# Altium footprint library 1720BL15A0100E.PcbLib: 3 footprints
Each footprint in its own frame and in the unit in brackets; x right, y up, seen from the top. Pads: shape width x height; smd on the part's side, far side on the other; paste and mask are expansions set on the pad; w line width, h text height; cw(c..) or ccw(c..) is an arc to the next point about the centre after c.
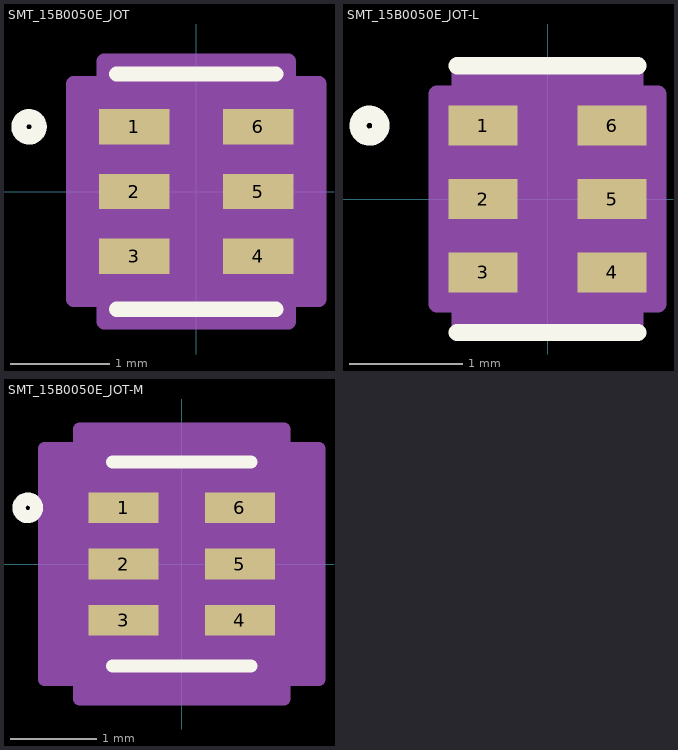
[diagram p0: the footprints below, top view; thin cyan lines are the x and y axes]

## SMT_15B0050E_JOT [mil]
pads (6):
  rect 28x14 smd paste+0 mask+0: 1(-24.5,25.59) 2(-24.5,0) 3(-24.5,-25.59) 4(24.5,-25.59) 5(24.5,0) 6(24.5,25.59)
Top Overlay:
  circle w6: c-66.09,25.59 r4
  lines w6: -31.5,-46.5 31.5,-46.5 ; -31.5,46.5 31.5,46.5
Mechanical 13:
  circle w0: c-10.5,25.59 r3
  lines w0: -12,41.5 ccw(c0,41.5) 12,41.5
  lines w1: -26.5,-41.5 26.5,-41.5 26.5,41.5 -26.5,41.5 -26.5,-41.5
Mechanical 15:
  region: -36.5,-42.59 -48.5,-42.59 -48.5,42.59 -36.5,42.59 -36.5,51.5 36.5,51.5 36.5,42.59 48.5,42.59 48.5,-42.59 36.5,-42.59 36.5,-51.5 -36.5,-51.5
  lines w6: -48.5,-42.59 -48.5,42.59 -36.5,42.59 -36.5,51.5 36.5,51.5 36.5,42.59 48.5,42.59 48.5,-42.59 36.5,-42.59 36.5,-51.5 -36.5,-51.5 -36.5,-42.59 -48.5,-42.59
3D body "SMT_15B0050E_JOT.step": height 41.1, standoff 0, extent -26.5,-41.5 26.5,41.5

## SMT_15B0050E_JOT-L [mil]
pads (6):
  rect 24x14 smd paste+0 mask+0: 1(-22.5,25.59) 2(-22.5,0) 3(-22.5,-25.59) 4(22.5,-25.59) 5(22.5,0) 6(22.5,25.59)
Top Overlay:
  circle w6: c-62.09,25.59 r4
  lines w6: -31.5,-46.5 31.5,-46.5 ; -31.5,46.5 31.5,46.5
Mechanical 13:
  circle w0: c-10.5,25.59 r3
  lines w0: -12,41.5 ccw(c0,41.5) 12,41.5
  lines w1: -26.5,-41.5 26.5,-41.5 26.5,41.5 -26.5,41.5 -26.5,-41.5
Mechanical 15:
  region: -30.5,-36.59 -38.5,-36.59 -38.5,36.59 -30.5,36.59 -30.5,45.5 30.5,45.5 30.5,36.59 38.5,36.59 38.5,-36.59 30.5,-36.59 30.5,-45.5 -30.5,-45.5
  lines w6: -38.5,-36.59 -38.5,36.59 -30.5,36.59 -30.5,45.5 30.5,45.5 30.5,36.59 38.5,36.59 38.5,-36.59 30.5,-36.59 30.5,-45.5 -30.5,-45.5 -30.5,-36.59 -38.5,-36.59
3D body "SMT_15B0050E_JOT.step": height 41.1, standoff 0, extent -26.5,-41.5 26.5,41.5

## SMT_15B0050E_JOT-M [mil]
pads (6):
  rect 32x14 smd paste+0 mask+0: 1(-26.5,25.59) 2(-26.5,0) 3(-26.5,-25.59) 4(26.5,-25.59) 5(26.5,0) 6(26.5,25.59)
Top Overlay:
  circle w6: c-70.09,25.59 r4
  lines w6: -31.5,-46.5 31.5,-46.5 ; -31.5,46.5 31.5,46.5
Mechanical 13:
  circle w0: c-10.5,25.59 r3
  lines w0: -12,41.5 ccw(c0,41.5) 12,41.5
  lines w1: -26.5,-41.5 26.5,-41.5 26.5,41.5 -26.5,41.5 -26.5,-41.5
Mechanical 15:
  region: -46.5,-52.59 -62.5,-52.59 -62.5,52.59 -46.5,52.59 -46.5,61.5 46.5,61.5 46.5,52.59 62.5,52.59 62.5,-52.59 46.5,-52.59 46.5,-61.5 -46.5,-61.5
  lines w6: -62.5,-52.59 -62.5,52.59 -46.5,52.59 -46.5,61.5 46.5,61.5 46.5,52.59 62.5,52.59 62.5,-52.59 46.5,-52.59 46.5,-61.5 -46.5,-61.5 -46.5,-52.59 -62.5,-52.59
3D body "SMT_15B0050E_JOT.step": height 41.1, standoff 0, extent -26.5,-41.5 26.5,41.5